# Altium footprint library PCB - BUTTONS - C&K KXT.PCBLIB: 1 footprints
Each footprint in its own frame and in the unit in brackets; x right, y up, seen from the top. Pads: shape width x height; smd on the part's side, far side on the other; paste and mask are expansions set on the pad; w line width, h text height; cw(c..) or ccw(c..) is an arc to the next point about the centre after c.
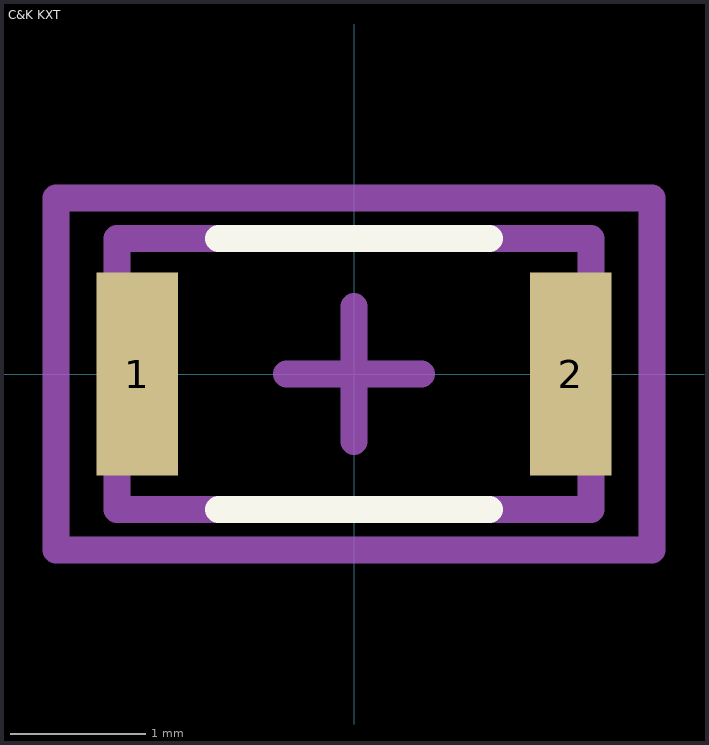
[diagram p0: the footprint, top view; thin cyan lines are the x and y axes]

## C&K KXT [mm]
height 0.6
pads (2):
  rect 0.6x1.5 smd: 1(-1.6,0) 2(1.6,0)
Top Overlay:
  lines w0.2: -1,-1 1,-1 ; -1,1 1,1
Mechanical 1:
  lines w0.2: -1.75,-1 -1.75,1 1.75,1 1.75,-1 -1.75,-1
Mechanical 15:
  lines w0.2: -0.5,0 0.5,0 ; 0,-0.5 0,0.5 ; -2.2,-1.3 -2.2,1.3 2.2,1.3 2.2,-1.3 -2.2,-1.3
3D body "C&K KXT.STEP": height 0.58, standoff 0, extent -1.75,-1 1.75,1